# Altium schematic symbol library SCH - CONNECTORS - Rosenberger D4S2UG-400A5-G.Schlib: 1 symbol
Pins are listed as number, name and electrical type; pins without a type are passive.

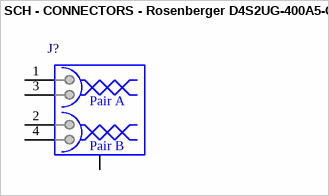
[diagram p0: symbol SCH - CONNECTORS - Rosenberger D4S2UG-400A5-G]

## SCH - CONNECTORS - Rosenberger D4S2UG-400A5-G
designator J?
footprint ROS-D4S2UG-400A5-G_V (Footprint not found)
pins: 1, 2, 3, 4, MH
text: Pair A; Pair B